# Altium footprint library LYZ.PcbLib: 30 footprints (part 2 of 2)
Each footprint in its own frame and in the unit in brackets; x right, y up, seen from the top. Pads: shape width x height; smd on the part's side, far side on the other; paste and mask are expansions set on the pad; w line width, h text height; cw(c..) or ccw(c..) is an arc to the next point about the centre after c.
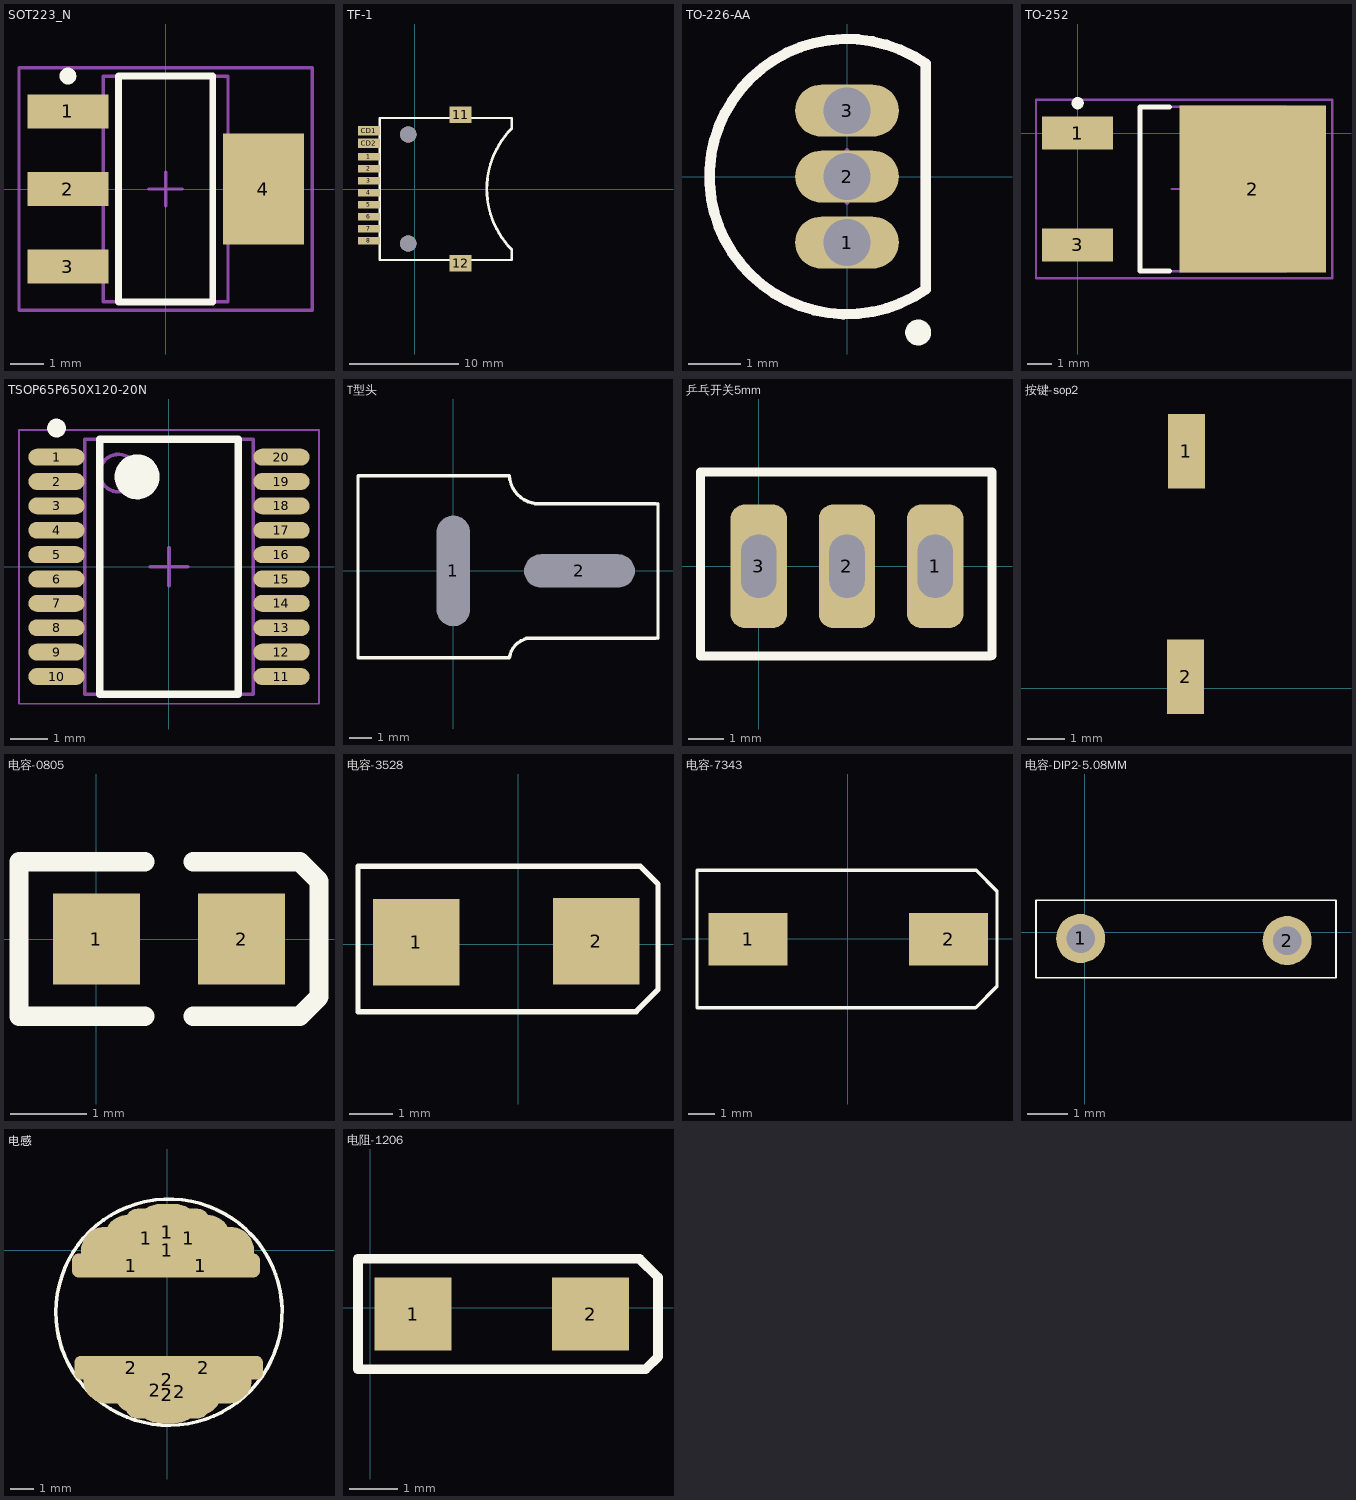
[diagram p1: the footprints below, top view; thin cyan lines are the x and y axes]

## SOT223_N [mm] "SOT223, 4-Leads, Body 6.5x3.5mm, Pitch 2.3mm, Lead Span 7mm, IPC Medium Density"
height 1.7
pads (4):
  rect 2.4x1 smd: 1(-2.9,2.3) 2(-2.9,0) 3(-2.9,-2.3)
  rect 2.4x3.3 smd: 4(2.9,0)
Top Overlay:
  circle w0.25: c-2.9,3.35 r0.125
  lines w0.2: -1.4,-3.35 1.4,-3.35 1.4,3.35 -1.4,3.35 -1.4,-3.35
Mechanical 13:
  lines w0.1: -1.85,-3.35 1.85,-3.35 1.85,3.35 -1.85,3.35 -1.85,-3.35
Mechanical 15:
  lines w0.1: -0.5,0 0.5,0 ; 0,-0.5 0,0.5 ; -4.35,-3.6 4.35,-3.6 4.35,3.6 -4.35,3.6 -4.35,-3.6
3D body: height 1.7, standoff 0, extent -1.85,-3.35 1.85,3.35

## TF-1 [mm]
pads (14):
  rect 2x0.7 smd: 1(-4.2,2.95) 2(-4.2,1.85) 3(-4.2,0.75) 4(-4.2,-0.35) 5(-4.2,-1.45) 6(-4.2,-2.55) 7(-4.2,-3.65) 8(-4.2,-4.75)
  rect 2x1.5 smd: 11(4.2,6.82) 12(4.2,-6.82)
  rect 2x0.85 smd: CD1(-4.2,5.35) CD2(-4.2,4.2)
  round 1.5 hole 1.5 unplated: ""(-0.6,-5)
  round 1.5 hole 1.5: ""(-0.6,5)
Top Overlay:
  lines w0.2: 8.9,-5.55 8.9,-6.515 -3.2,-6.515 -3.2,6.515 8.9,6.515 8.9,5.55
  lines w0.254: 8.9,-5.55 cw(c14.45,0) 8.9,5.55

## TO-226-AA [mm] "TO, Flat Index; 3 In-Line, Axial Leads; Body Dia. 4.8mm; Leads 0.55 x 0.51 mm (max)"
height 5.33
pads (3):
  oval 2x1 hole 0.9: 1(0,-1.27) 2(0,0) 3(0,1.27)
Top Overlay:
  circle w0.25: c1.371,-3.003 r0.125
  lines w0.2: 1.52,-2.171 cw(c0,0) 1.52,2.171 1.52,-2.171
Mechanical 13:
  lines w0.2: 1.52,-2.171 cw(c0,0) 1.52,2.171 1.52,-2.171
Mechanical 15:
  lines w0.1: -0.5,0 0.5,0 ; 0,-0.5 0,0.5
3D body: height 5.33, standoff 0, extent -2.659,-2.659 1.52,2.659

## TO-252 [mm]
pads (3):
  rect 2.9x1.35 smd: 1(0,0) 3(0,-4.56)
  rect 6x6.8 smd: 2(7.15,-2.28)
Top Overlay:
  circle w0.25: c0,1.225 r0.125
  lines w0.2: 3.75,-5.63 2.55,-5.63 2.55,1.07 3.75,1.07
Mechanical 13:
  lines w0.1: 2.55,-5.63 2.55,1.07 8.55,1.07 8.55,-5.63 2.55,-5.63
Mechanical 15:
  lines w0.1: 3.85,-2.28 4.85,-2.28 ; 4.35,-2.78 4.35,-1.78 ; -1.7,-5.93 -1.7,1.37 10.4,1.37 10.4,-5.93 -1.7,-5.93
3D body: height 2.38, standoff 0, extent 2.55,-5.63 8.55,1.07

## TSOP65P650X120-20N [mm] "TSOP, 20-Leads, Body 6.50x4.40mm, Pitch 0.65mm, IPC Medium Density"
height 1.2
pads (20):
  oval 1.5x0.45 smd: 1(-3,2.925) 2(-3,2.275) 3(-3,1.625) 4(-3,0.975) 5(-3,0.325) 6(-3,-0.325) 7(-3,-0.975) 8(-3,-1.625) 9(-3,-2.275) 10(-3,-2.925) 11(3,-2.925) 12(3,-2.275) 13(3,-1.625) 14(3,-0.975) 15(3,-0.325) 16(3,0.325) 17(3,0.975) 18(3,1.625) 19(3,2.275) 20(3,2.925)
Top Overlay:
  circle w0.6: c-0.85,2.4 r0.3
  circle w0.25: c-3,3.7 r0.125
  lines w0.2: -1.85,-3.4 1.85,-3.4 1.85,3.4 -1.85,3.4 -1.85,-3.4
Mechanical 13:
  circle w0.1: c-1.35,2.5 r0.5
  lines w0.1: -2.25,-3.4 2.25,-3.4 2.25,3.4 -2.25,3.4 -2.25,-3.4
Mechanical 15:
  lines w0.05: -4,-3.65 4,-3.65 4,3.65 -4,3.65 -4,-3.65
  lines w0.1: -0.5,0 0.5,0 ; 0,-0.5 0,0.5
3D body: height 1.2, standoff 0.1, extent -2.25,-3.4 2.25,3.4

## T型头 [mm]
pads (2):
  rect 1x4 hole 1.5 slot 5 at 90 deg: 1(0,0)
  rect 4x1 hole 1.5 slot 5 at 0 deg: 2(5.715,0)
Top Overlay:
  lines w0.152: 3.302,-3.048 9.174,-3.048 ; 3.683,-3.048 ccw(c3.556,-4.064) 2.54,-3.937 -0.762,-3.937 -4.318,-3.937 -4.318,4.318 -0.762,4.318 2.54,4.318 ccw(c3.873,4.381) 3.937,3.048 ; 3.683,3.048 9.178,3.048 ; 9.271,-3.048 9.271,3.048

## 乒乓开关5mm [mm]
pads (3):
  rrect50% 1.6x3.5 hole 1 slot 1.8 at 90 deg: 1(5,0) 2(2.5,0) 3(0,0)
Top Overlay:
  lines w0.254: -1.651,-2.54 6.549,-2.54 ; -1.651,-2.533 -1.651,2.667 6.549,2.667 ; 6.604,-2.533 6.604,2.667

## 按键-sop2 [mm]
pads (2):
  rect 1x2 smd: 1(-4.928,6.35) 2(-4.953,0.305)
3D body: height 0, standoff -2.5, extent -6.828,0.531 -3.128,6.631

## 电容-0805 [mm]
pads (2):
  rect 1.14x1.2 smd: 1(0,0) 2(1.905,0)
Top Overlay:
  lines w0.254: 0.635,-1.016 -1.016,-1.016 -1.016,1.016 0.635,1.016 ; 1.27,-1.016 2.667,-1.016 2.921,-0.762 2.921,0.762 2.667,1.016 1.27,1.016
3D body: height 0.78, standoff 0, extent -0.095,-0.625 1.905,0.625

## 电容-3528 [mm]
pads (2):
  rect 2x2 smd: 1(-2.362,0.051) 2(1.803,0.076)
Top Overlay:
  lines w0.127: -3.708,-1.549 -3.708,1.803 2.819,1.803 3.226,1.397 3.226,1.372 3.226,-1.041 2.718,-1.549 -3.708,-1.549
3D body: height 2.14, standoff 0.04, extent -2.15,-1.296 1.54,1.524

## 电容-7343 [mm]
pads (2):
  rect 3x2 smd: 1(-3.775,-0.025) 2(3.825,-0.025)
Top Overlay:
  lines w0.127: -5.715,0.279 -5.715,-2.616 4.851,-2.616 5.664,-1.803 5.664,1.803 4.877,2.591 -5.715,2.591 -5.715,0.33
3D body: height 3.1, standoff 0, extent -3.775,-2.325 3.825,2.275

## 电容-DIP2-5.08MM [mm]
pads (2):
  round 1.2 hole 0.7: 1(-0.102,-0.152) 2(4.953,-0.203)
Top Overlay:
  lines w0.04: -1.194,-1.118 6.096,-1.118 6.147,-1.118 6.147,0.787 -1.194,0.787 -1.194,-1.118
3D body: height 6.5, standoff -2, extent -1.066,-1.011 5.934,0.686

## 电感 [mil]
pads (14):
  rrect50% 196.85x39.37 smd: 1(-60,-25) 1(55,-25) 2(60,-195)
  oval 140x78.74 smd: 1(-35,20) 1(35,20) 2(-20.63,-231.85) 2(20,-235)
  oval 287.4x78.74 smd: 1(0,0)
  rrect50% 140x78.74 smd: 1(0,30) 2(0,-240)
  oval 118.11x94.49 smd: 1(0,30) 2(0,-240)
  rrect50% 188.98x39.37 smd: 2(-60,-195)
  oval 279.53x78.74 smd: 2(0,-215)
Top Overlay:
  lines w6: -24.08,83.53 ccw(c2.5,-102.5) -19.89,84.08

## 电阻-1206 [mm]
pads (2):
  rect 1.6x1.52 smd: 1(0.889,-0.127) 2(4.572,-0.127)
Top Overlay:
  lines w0.2: -0.254,-1.27 5.715,-1.27 5.969,-1.016 5.969,0.635 5.588,1.016 -0.254,1.016 -0.254,-1.27
3D body: height 1, standoff 0, extent 1.219,-0.902 4.419,0.698